# EAGLE library part RS6011Y1600Q (library RS6011Y1600Q)
Slide Potentiometers 10 KOhms 20% THROUGH HOLE Source: Datasheet <https://componentsearchengine.com/Datasheets/1/RS6011Y1600Q.pdf>
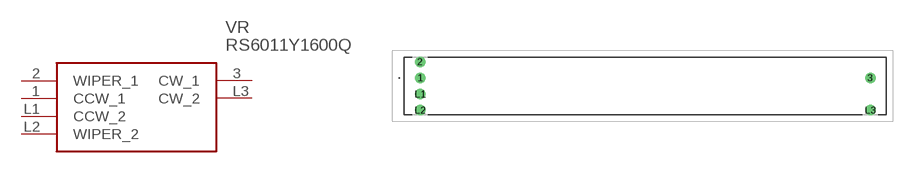
[diagram p0: symbol with the pads of RS6011Y1600Q; footprint RS6011Y1600Q]

Designator prefix VR

## RS6011Y1600Q (Description: Slide Potentiometers 10 KOhms 20% THROUGH HOLE; Height: 22mm; Manufacturer_Name: ALPS; Manufacturer_Part_Number: RS6011Y1600Q; Mouser_Part_Number: 688-RS6011Y1600Q; Mouser_Price-Stock: https://www.mouser.com/Search/Refine.aspx?Keyword=688-RS6011Y1600Q)  [RS6011Y1600Q]
1  CCW_1
2  WIPER_1
3  CW_1
L1  CCW_2
L2  WIPER_2
L3  CW_2

## Footprint RS6011Y1600Q (pad centres in mm)
RS6011Y1600Q-1
drill 1.1 pad 1.65: 1 0,0; 2 0,2.5; 3 70,0; L1 0,-2.5; L2 0,-5; L3 70,-5